# Altium footprint library songshuai.PcbLib: 62 footprints (part 3 of 4)
Each footprint in its own frame and in the unit in brackets; x right, y up, seen from the top. Pads: shape width x height; smd on the part's side, far side on the other; paste and mask are expansions set on the pad; w line width, h text height; cw(c..) or ccw(c..) is an arc to the next point about the centre after c.
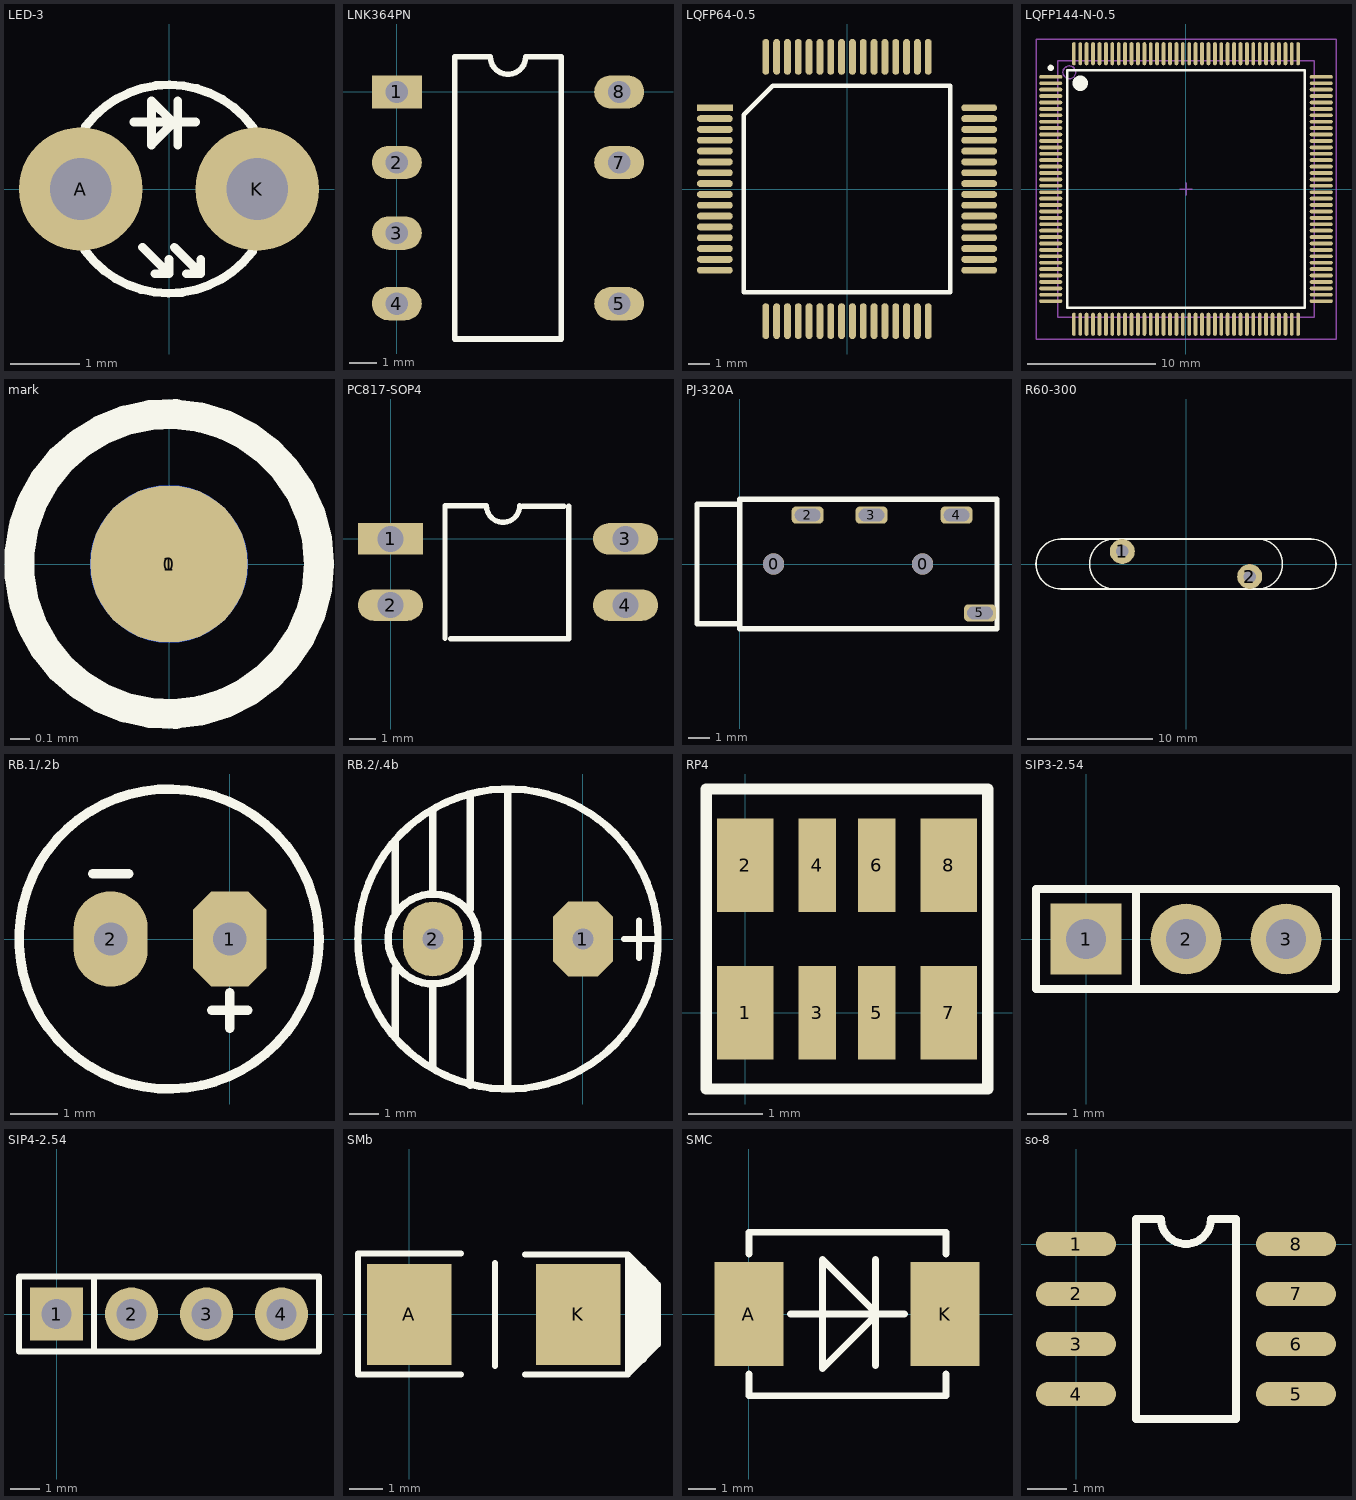
[diagram p2: the footprints below, top view; thin cyan lines are the x and y axes]

## LED-3 [mil]
height 600
pads (2):
  round 70 hole 35: A(-50,0) K(50,0)
Top Overlay:
  lines w5: -47.65,-34.89 ccw(c0,0) 47.24,-35.43 ; -47.24,35.43 cw(c0,0) 47.65,34.89 ; -20,38 15,38 ; -15,-33 0,-48 ; -8,-48 0,-48 ; 0,-40 0,-48 ; 3,-33 18,-48 ; 5,25 5,50 ; 10,-48 18,-48 ; 18,-40 18,-48 ; -10,25 3,38 2,38 -10,50 -10,25

## LNK364PN [mm]
height 0.2
pads (7):
  rect 1.8x1.2 hole 0.8: 1(0,0)
  oval 1.8x1.2 hole 0.8: 2(0,-2.54) 3(0,-5.08) 4(0,-7.62) 5(8,-7.62) 7(8,-2.54) 8(8,0)
Top Overlay:
  lines w0.2: 2.085,-8.89 5.915,-8.89 5.915,1.27 4.635,1.27 cw(c4,1.27) 3.365,1.27 2.085,1.27 2.085,-8.89

## LQFP64-0.5 [mm]
height 10
pads (64):
  rect 1.651x0.32 smd: 1(-6.1,3.75)
  oval 1.651x0.32 smd: 2(-6.1,3.25) 3(-6.1,2.75) 4(-6.1,2.25) 5(-6.1,1.75) 6(-6.1,1.25) 7(-6.1,0.75) 8(-6.1,0.25) 9(-6.1,-0.25) 10(-6.1,-0.75) 11(-6.1,-1.25) 12(-6.1,-1.75) 13(-6.1,-2.25) 14(-6.1,-2.75) 15(-6.1,-3.25) 16(-6.1,-3.75) 33(6.1,-3.75) 34(6.1,-3.25) 35(6.1,-2.75) 36(6.1,-2.25) 37(6.1,-1.75) 38(6.1,-1.25) 39(6.1,-0.75) 40(6.1,-0.25) 41(6.1,0.25) 42(6.1,0.75) 43(6.1,1.25) 44(6.1,1.75) 45(6.1,2.25) 46(6.1,2.75) 47(6.1,3.25) 48(6.1,3.75)
  oval 0.32x1.651 smd: 17(-3.75,-6.1) 18(-3.25,-6.1) 19(-2.75,-6.1) 20(-2.25,-6.1) 21(-1.75,-6.1) 22(-1.25,-6.1) 23(-0.75,-6.1) 24(-0.25,-6.1) 25(0.25,-6.1) 26(0.75,-6.1) 27(1.25,-6.1) 28(1.75,-6.1) 29(2.25,-6.1) 30(2.75,-6.1) 31(3.25,-6.1) 32(3.75,-6.1) 49(3.75,6.1) 50(3.25,6.1) 51(2.75,6.1) 52(2.25,6.1) 53(1.75,6.1) 54(1.25,6.1) 55(0.75,6.1) 56(0.25,6.1) 57(-0.25,6.1) 58(-0.75,6.1) 59(-1.25,6.1) 60(-1.75,6.1) 61(-2.25,6.1) 62(-2.75,6.1) 63(-3.25,6.1) 64(-3.75,6.1)
Top Overlay:
  lines w0.2: -4.765,-4.765 4.765,-4.765 4.765,4.765 -3.43,4.765 -4.765,3.43 -4.765,-4.765

## LQFP144-N-0.5 [mm]
height 7.62
pads (144):
  oval 1.8x0.3 smd: 1(-10.55,8.75) 2(-10.55,8.25) 3(-10.55,7.75) 4(-10.55,7.25) 5(-10.55,6.75) 6(-10.55,6.25) 7(-10.55,5.75) 8(-10.55,5.25) 9(-10.55,4.75) 10(-10.55,4.25) 11(-10.55,3.75) 12(-10.55,3.25) 13(-10.55,2.75) 14(-10.55,2.25) 15(-10.55,1.75) 16(-10.55,1.25) 17(-10.55,0.75) 18(-10.55,0.25) 19(-10.55,-0.25) 20(-10.55,-0.75) 21(-10.55,-1.25) 22(-10.55,-1.75) 23(-10.55,-2.25) 24(-10.55,-2.75) 25(-10.55,-3.25) 26(-10.55,-3.75) 27(-10.55,-4.25) 28(-10.55,-4.75) 29(-10.55,-5.25) 30(-10.55,-5.75) 31(-10.55,-6.25) 32(-10.55,-6.75) 33(-10.55,-7.25) 34(-10.55,-7.75) 35(-10.55,-8.25) 36(-10.55,-8.75) 73(10.55,-8.75) 74(10.55,-8.25) 75(10.55,-7.75) 76(10.55,-7.25) 77(10.55,-6.75) 78(10.55,-6.25) 79(10.55,-5.75) 80(10.55,-5.25) 81(10.55,-4.75) 82(10.55,-4.25) 83(10.55,-3.75) 84(10.55,-3.25) 85(10.55,-2.75) 86(10.55,-2.25) 87(10.55,-1.75) 88(10.55,-1.25) 89(10.55,-0.75) 90(10.55,-0.25) 91(10.55,0.25) 92(10.55,0.75) 93(10.55,1.25) 94(10.55,1.75) 95(10.55,2.25) 96(10.55,2.75) 97(10.55,3.25) 98(10.55,3.75) 99(10.55,4.25) 100(10.55,4.75) 101(10.55,5.25) 102(10.55,5.75) 103(10.55,6.25) 104(10.55,6.75) 105(10.55,7.25) 106(10.55,7.75) 107(10.55,8.25) 108(10.55,8.75)
  oval 0.3x1.8 smd: 37(-8.75,-10.55) 38(-8.25,-10.55) 39(-7.75,-10.55) 40(-7.25,-10.55) 41(-6.75,-10.55) 42(-6.25,-10.55) 43(-5.75,-10.55) 44(-5.25,-10.55) 45(-4.75,-10.55) 46(-4.25,-10.55) 47(-3.75,-10.55) 48(-3.25,-10.55) 49(-2.75,-10.55) 50(-2.25,-10.55) 51(-1.75,-10.55) 52(-1.25,-10.55) 53(-0.75,-10.55) 54(-0.25,-10.55) 55(0.25,-10.55) 56(0.75,-10.55) 57(1.25,-10.55) 58(1.75,-10.55) 59(2.25,-10.55) 60(2.75,-10.55) 61(3.25,-10.55) 62(3.75,-10.55) 63(4.25,-10.55) 64(4.75,-10.55) 65(5.25,-10.55) 66(5.75,-10.55) 67(6.25,-10.55) 68(6.75,-10.55) 69(7.25,-10.55) 70(7.75,-10.55) 71(8.25,-10.55) 72(8.75,-10.55) 109(8.75,10.55) 110(8.25,10.55) 111(7.75,10.55) 112(7.25,10.55) 113(6.75,10.55) 114(6.25,10.55) 115(5.75,10.55) 116(5.25,10.55) 117(4.75,10.55) 118(4.25,10.55) 119(3.75,10.55) 120(3.25,10.55) 121(2.75,10.55) 122(2.25,10.55) 123(1.75,10.55) 124(1.25,10.55) 125(0.75,10.55) 126(0.25,10.55) 127(-0.25,10.55) 128(-0.75,10.55) 129(-1.25,10.55) 130(-1.75,10.55) 131(-2.25,10.55) 132(-2.75,10.55) 133(-3.25,10.55) 134(-3.75,10.55) 135(-4.25,10.55) 136(-4.75,10.55) 137(-5.25,10.55) 138(-5.75,10.55) 139(-6.25,10.55) 140(-6.75,10.55) 141(-7.25,10.55) 142(-7.75,10.55) 143(-8.25,10.55) 144(-8.75,10.55)
Top Overlay:
  circle w0.25: c-10.55,9.45 r0.125
  circle w0.6: c-8.25,8.25 r0.3
  lines w0.2: -9.25,-9.25 -9.25,9.25 9.25,9.25 9.25,-9.25 -9.25,-9.25
Mechanical 13:
  circle w0.1: c-9.1,9.1 r0.5
  lines w0.1: -10,-10 -10,10 10,10 10,-10 -10,-10
Mechanical 15:
  lines w0.1: -0.5,0 0.5,0 ; 0,-0.5 0,0.5 ; -11.7,-11.7 -11.7,11.7 11.7,11.7 11.7,-11.7 -11.7,-11.7

## mark [mm] "Test Point"
height 0.508
pads (2):
  round 0.8 smd far side: 0(0,0)
  round 0.8 smd: 1(0,0)
Top Overlay:
  circle w0.152: c0,0 r0.762

## PC817-SOP4 [mm]
height 0.2
pads (4):
  rect 2.5x1.2 hole 1: 1(0,0)
  oval 2.5x1.2 hole 1: 2(0,-2.54) 3(9,0) 4(9,-2.54)
Top Overlay:
  lines w0.2: 2.085,-3.81 2.085,1.27 3.675,1.27 ccw(c4.31,1.27) 4.945,1.27 ; 2.3,-3.825 6.75,-3.825 ; 5.06,1.25 6.65,1.25 ; 6.825,-3.83 6.825,1.25

## PJ-320A [mm]
height 5
pads (6):
  round 1 hole 1: 0(1.6,0) 0(8.6,0)
  rrect50% 1.5x0.8 hole 0.6 slot 1.2 at 0 deg: 2(3.2,2.3) 3(6.2,2.3) 4(10.2,2.3) 5(11.3,-2.3)
Top Overlay:
  lines w0.254: -2,-2.8 0,-2.8 0,2.8 -2,2.8 -2,-2.8 ; 0,-3.05 0,3.05 12.1,3.05 12.1,-3.05 0,-3.05

## R60-300 [mm]
height 3
pads (2):
  round 2 hole 1: 1(-5.1,1) 2(5.1,-1)
Top Overlay:
  lines w0.127: -5.715,-2 cw(c-5.715,0) -5.715,2 ; 5.715,-2 ccw(c5.715,0) 5.715,2 ; -10,-2 cw(c-10,0) -10,2 10,2 cw(c10,0) 10,-2 -10,-2

## RB.1/.2b [mil]
height 118.11
pads (2):
  oct 62x80 hole 28: 1(0,0)
  oval 62x80 hole 28: 2(-100,0)
Top Overlay:
  circle w8: c-51,0 r125.98
  lines w8: -115,55 -85,55 ; -15,-60 15,-60 ; 0,-75 0,-45

## RB.2/.4b [mil]
pads (2):
  oct 80x100 hole 28: 1(0,0)
  oval 80x100 hole 28: 2(-200,0)
Top Overlay:
  circle w10: c-100,0 r200
  circle w10: c-200,0 r60
  lines w8: 55,0 95,0 ; 75,-25 75,25
  lines w10: -250,-130 -250,-40 ; -250,35 -250,130 ; -200,-170 -200,-60 ; -200,60 -200,170 ; -150,-195 -150,-35 ; -150,40 -150,190 ; -100,-200 -100,200

## RP4 [mil]
height 64.96
pads (8):
  rect 30x50 smd: 1(0,0) 2(0,78.74) 7(108.42,0) 8(108.42,78.74)
  rect 20x50 smd: 3(38.46,0) 4(38.46,78.74) 5(69.96,0) 6(69.96,78.74)
Top Overlay:
  lines w6: -20.79,-40.63 129.21,-40.63 129.21,119.37 -20.79,119.37 -20.79,-40.63

## SIP3-2.54 [mm]
height 15.24
pads (3):
  rect 1.8x1.8 hole 1.016: 1(0,0)
  round 1.8 hole 1.016: 2(2.54,0) 3(5.08,0)
Top Overlay:
  lines w0.203: 1.27,-1.27 1.27,1.27 ; -1.27,-1.27 -1.27,1.27 6.35,1.27 6.35,-1.27 -1.27,-1.27

## SIP4-2.54 [mm]
height 15.24
pads (4):
  rect 1.8x1.8 hole 1.016: 1(0,0)
  round 1.8 hole 1.016: 2(2.54,0) 3(5.08,0) 4(7.62,0)
Top Overlay:
  lines w0.203: 1.27,-1.27 1.27,1.27 ; -1.27,-1.27 -1.27,1.27 8.89,1.27 8.89,-1.27 -1.27,-1.27

## SMb [mm] "SS34"
height 3
pads (2):
  rect 2.5x3 smd: A(0,0) K(5,0)
Top Overlay:
  lines w0.178: -1.524,1.778 -1.524,-1.778 1.524,-1.778 ; -1.524,1.803 1.524,1.803 ; 2.54,-1.524 2.54,1.524 ; 3.429,-1.778 6.477,-1.778 ; 3.429,1.778 6.477,1.778 ; 7.112,-1.016 7.112,1.016 ; 7.239,-0.889 7.239,0.889 ; 7.302,0.953 6.477,1.778 ; 7.366,0.889 7.366,-0.889 6.477,-1.778 ; 6.477,-1.778 6.477,1.778
  lines w0.381: 6.579,-1.397 6.579,1.397 ; 6.858,-1.27 6.858,1.27

## SMC [mm]
height 3
pads (2):
  rect 2.54x3.81 smd: A(0,0) K(7.2,0)
Top Overlay:
  lines w0.254: 0,-2.2 0,-3 7.239,-3 7.239,-2.2 ; 0,2.2 0,3 7.239,3 7.239,2.2 ; 1.524,0 5.715,0 ; 4.648,-1.893 4.648,2.007 ; 5.1,0 5.2,0 ; 2.699,-2 2.699,2 4.699,0 2.699,-2

## so-8 [mil]
height 64.96
pads (8):
  oval 80x24 smd: 1(0,0) 2(0,-50) 3(0,-100) 4(0,-150) 5(220,-150) 6(220,-100) 7(220,-50) 8(220,0)
Top Overlay:
  lines w8: 60,-175 60,25 85,25 ccw(c110,25) 135,25 160,25 160,-175 60,-175